# Altium schematic symbol library RJ45.SchLib: 1 symbol
Pins are listed as number, name and electrical type; pins without a type are passive.

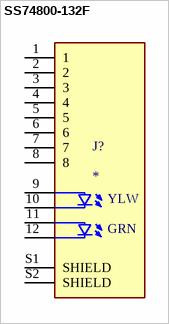
[diagram p0: symbol SS74800-132F]

## SS74800-132F
designator J?
Automotive Grade Right Angle LED connector; MP: SS74800-132F; Package: None; Price: None; Value: *; Availability: Unavailable
footprint BEL_SS74800-132F
pins: 1, 2, 3, 4, 5, 6, 7, 8, 9 YA, 10 YK, 11 GA, 12 GK, S1 SHIELD, S2 SHIELD
text: YLW; GRN